# EAGLE library part OLED-SAMIORE (library logick)
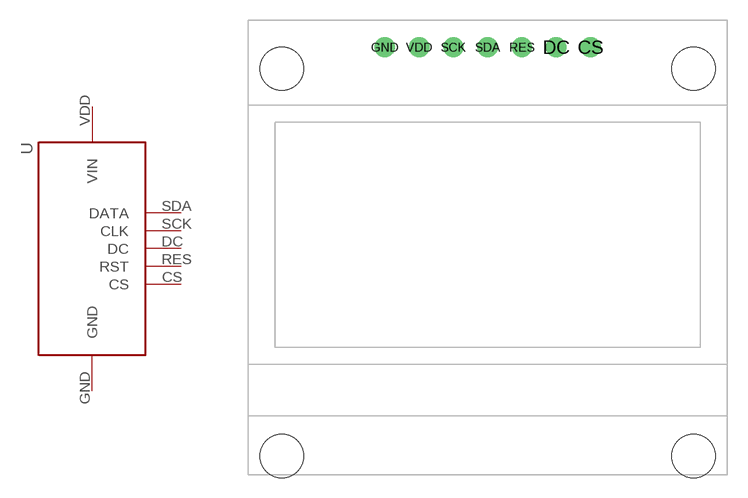
[diagram p15: symbol with the pads of OLED-SAMIORE; footprint OLED-SAMIORE]

Designator prefix -

## OLED-SAMIORE  [OLED-SAMIORE]
CS  CS  out
DC  DC  in
GND  GND  sup
RES  RST  in
SCK  CLK  in
SDA  DATA  out
VDD  VIN  sup

## Footprint OLED-SAMIORE (pad centres in mm)
drill 1: CS 7.62,0; DC 5.08,0; GND -7.62,0; RES 2.54,0; SCK -2.54,0; SDA 0,0; VDD -5.08,0
hole 3.2 at -15.25,-1.6
hole 3.2 at 15.25,-1.6
hole 3.2 at -15.25,-30.3
hole 3.2 at 15.25,-30.3